# Altium footprint library DIP1525W56P254L5220H559Q40N.PcbLib: 1 footprints
Each footprint in its own frame and in the unit in brackets; x right, y up, seen from the top. Pads: shape width x height; smd on the part's side, far side on the other; paste and mask are expansions set on the pad; w line width, h text height; cw(c..) or ccw(c..) is an arc to the next point about the centre after c.
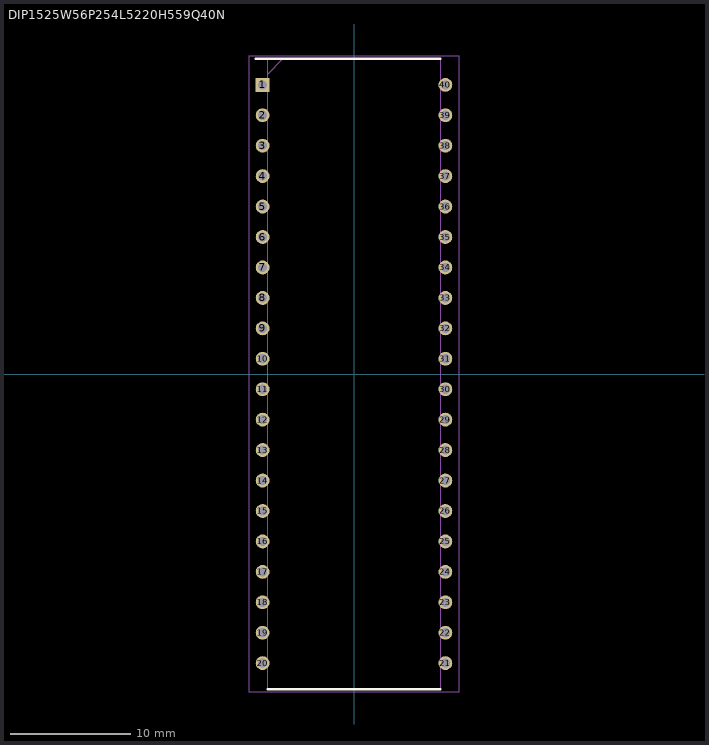
[diagram p0: the footprint, top view; thin cyan lines are the x and y axes]

## DIP1525W56P254L5220H559Q40N [mil]
pads (40):
  rect 45.63x45.63 / inner round 45.63 / far side rect 45.63x45.63 hole 29.88: 1(-300.12,950)
  round 45.63 hole 29.88: 2(-300.12,850) 3(-300.12,750) 4(-300.12,650) 5(-300.12,550) 6(-300.12,450) 7(-300.12,350) 8(-300.12,250) 9(-300.12,150) 10(-300.12,50) 11(-300.12,-50) 12(-300.12,-150) 13(-300.12,-250) 14(-300.12,-350) 15(-300.12,-450) 16(-300.12,-550) 17(-300.12,-650) 18(-300.12,-750) 19(-300.12,-850) 20(-300.12,-950) 21(300.12,-950) 22(300.12,-850) 23(300.12,-750) 24(300.12,-650) 25(300.12,-550) 26(300.12,-450) 27(300.12,-350) 28(300.12,-250) 29(300.12,-150) 30(300.12,-50) 31(300.12,50) 32(300.12,150) 33(300.12,250) 34(300.12,350) 35(300.12,450) 36(300.12,550) 37(300.12,650) 38(300.12,750) 39(300.12,850) 40(300.12,950)
Top Overlay:
  lines w7.87: -322.91,1035.43 283.46,1035.43 ; -283.46,-1035.43 283.46,-1035.43
Mechanical 15:
  lines w3.94: -283.46,985.43 -233.46,1035.43 ; -283.46,-1035.43 283.46,-1035.43 283.46,1035.43 -283.46,1035.43 -283.46,-1035.43
Mechanical 20:
  lines w1.97: -343.62,-1045.28 343.62,-1045.28 343.62,1045.28 -343.62,1045.28 -343.62,-1045.28